# Altium footprint library TI Power Management Linear Regulator Single Channel LDO (0-350mA).PcbLib: 64 footprints (part 3 of 4)
Each footprint in its own frame and in the unit in brackets; x right, y up, seen from the top. Pads: shape width x height; smd on the part's side, far side on the other; paste and mask are expansions set on the pad; w line width, h text height; cw(c..) or ccw(c..) is an arc to the next point about the centre after c.
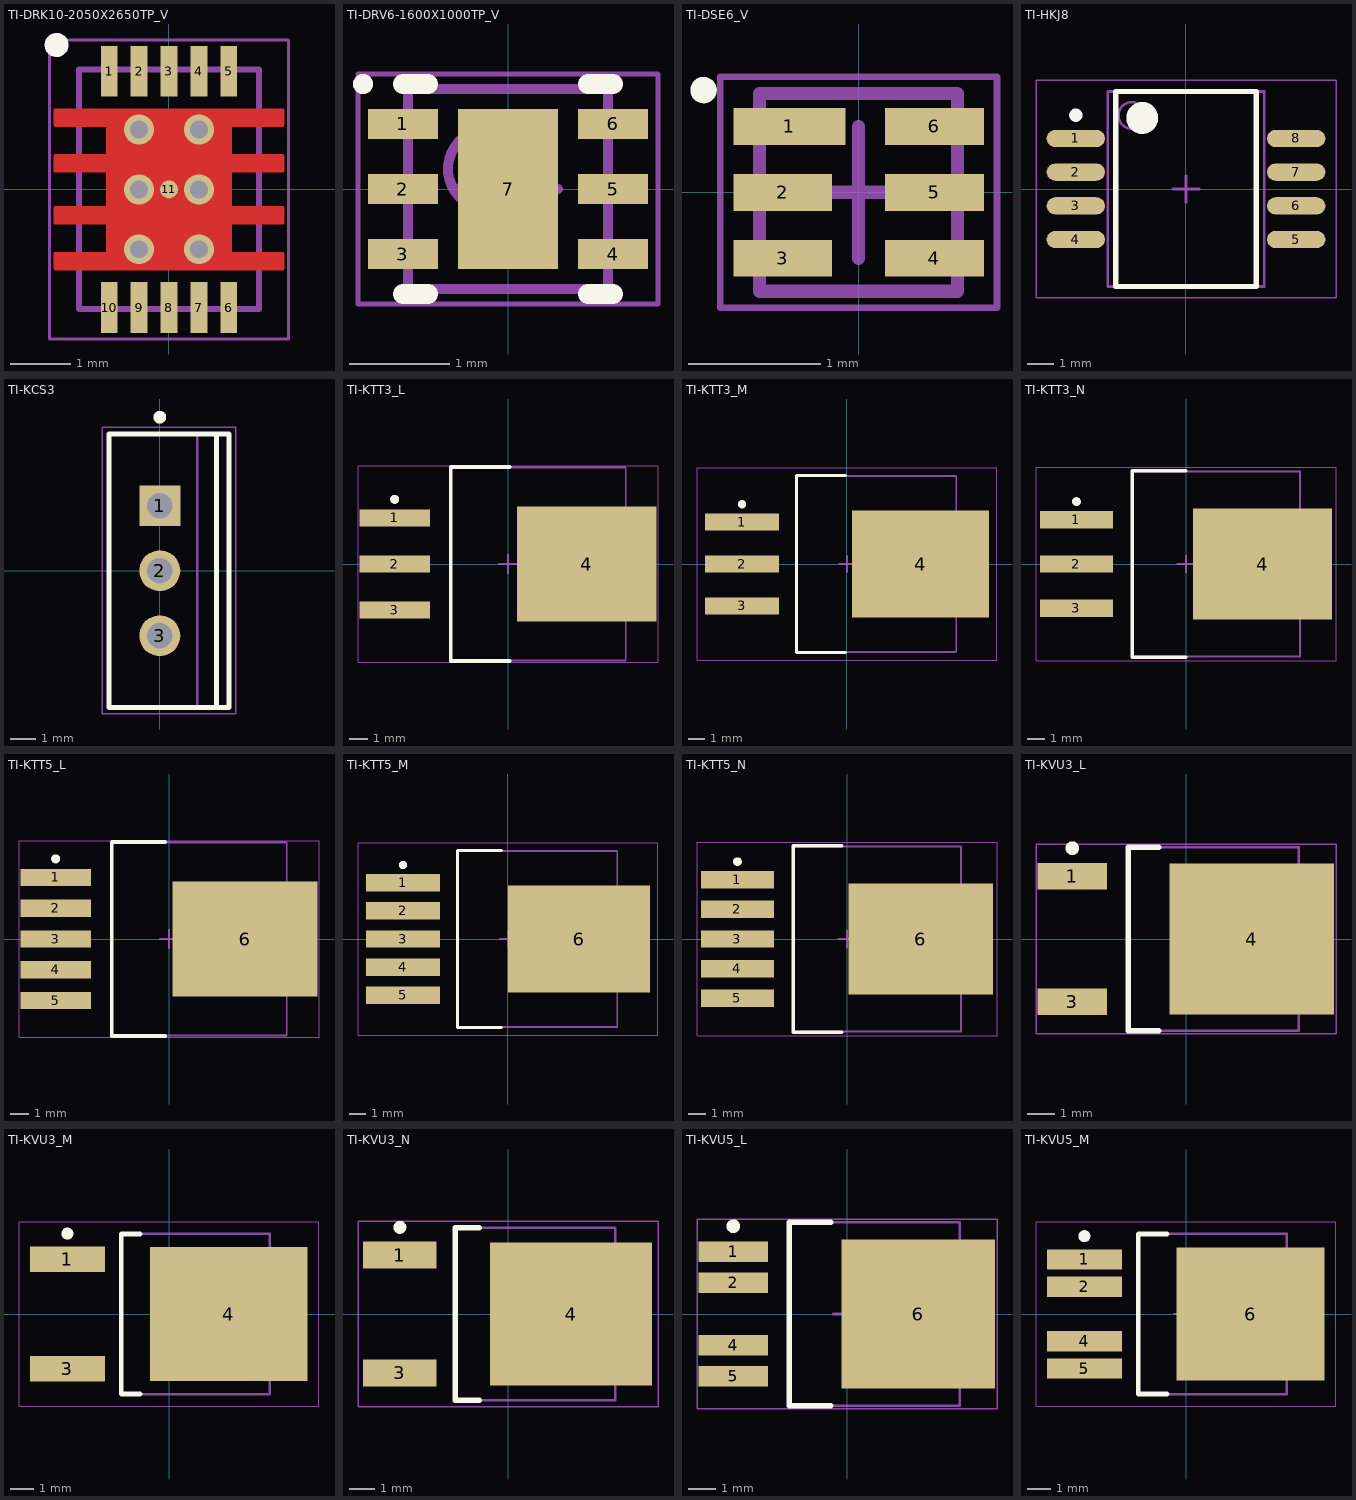
[diagram p2: the footprints below, top view; thin cyan lines are the x and y axes]

## TI-DRK10-2050X2650TP_V [mm] "SON, 10-Leads, Body 4x3mm, Pitch 0.5mm, Thermal Pad 3.8x2.65mm"
height 1
pads (11):
  rect 0.28x0.85 smd: 1(-1,1.975) 2(-0.5,1.975) 3(0,1.975) 4(0.5,1.975) 5(1,1.975) 6(1,-1.975) 7(0.5,-1.975) 8(0,-1.975) 9(-0.5,-1.975) 10(-1,-1.975)
  round 0.3 smd: 11(0,0)
via -0.5,-1 diameter 0.5 hole 0.3
via 0.5,-1 diameter 0.5 hole 0.3
via -0.5,0 diameter 0.5 hole 0.3
via -0.5,1 diameter 0.5 hole 0.3
via 0.5,0 diameter 0.5 hole 0.3
via 0.5,1 diameter 0.5 hole 0.3
Top Layer:
  region: 156 vertices and 0 holes, not listed, extent -1.925,-1.35 1.925,1.35
  lines w0.05: -1.9,-1.325 1.9,-1.325 1.9,-1.075 1.025,-1.075 1.025,-0.56 1.9,-0.56 1.9,-0.31 1.899,-0.309 1.021,-0.309 1.025,-0.305 1.025,0.31 1.9,0.31 1.9,0.56 1.025,0.56 1.025,1.075 1.9,1.075 1.9,1.325 -1.9,1.325 -1.9,1.075 -1.025,1.075 -1.025,0.56 -1.9,0.56 -1.9,0.31 -1.899,0.309 -1.021,0.309 -1.025,0.305 -1.025,-0.31 -1.9,-0.31 -1.9,-0.56 -1.025,-0.56 -1.025,-1.075 -1.9,-1.075 -1.9,-1.325
Top Overlay:
  circle w0.2: c-1.878,2.413 r0.1
Top Paste:
  drawing of 1 lines, arcs and shapes, not listed
Mechanical 13:
  lines w0.1: -1.5,-2 1.5,-2 1.5,2 -1.5,2 -1.5,-2
Mechanical 15:
  lines w0.05: -2,-2.5 -2,2.5 2,2.5 2,-2.5 -2,-2.5
  lines w0.1: -0.381,0 0.381,0 ; 0,-0.381 0,0.381
3D body: height 1, standoff 0, extent -1.5,-2 1.5,2

## TI-DRV6-1600X1000TP_V [mm] "SON, 6-Leads, Body 2x2mm, Pitch 0.65mm, Thermal Pad 1X1.6mm"
height 0.8
pads (7):
  rect 0.7x0.3 smd: 1(-1.05,0.65) 2(-1.05,0) 3(-1.05,-0.65) 4(1.05,-0.65) 5(1.05,0) 6(1.05,0.65)
  rect 1x1.6 smd: 7(0,0)
Top Overlay:
  circle w0.1: c-1.45,1.05 r0.05
  lines w0.2: -1.05,-1.05 -0.8,-1.05 ; -1.05,1.05 -0.8,1.05 ; 0.8,-1.05 1.05,-1.05 ; 0.8,1.05 1.05,1.05
Mechanical 13:
  circle w0.1: c-0.2,0.2 r0.4
  lines w0.1: -1,-1 1,-1 1,1 -1,1 -1,-1
Mechanical 15:
  lines w0.05: -1.5,-1.15 1.5,-1.15 1.5,1.15 -1.5,1.15 -1.5,-1.15
  lines w0.1: -0.5,0 0.5,0 ; 0,-0.5 0,0.5
3D body "SON6_2x2.step": height 0.75, standoff 0, extent -1.001,-1 1.001,1

## TI-DSE6_V [mm] "SON, 6-Leads, Body 1.5x1.5mm, Pitch 0.5mm"
height 0.8
pads (6):
  rect 0.85x0.28 smd: 1(-0.525,0.5)
  rect 0.75x0.28 smd: 2(-0.575,0) 3(-0.575,-0.5) 4(0.575,-0.5) 5(0.575,0) 6(0.575,0.5)
Top Overlay:
  circle w0.1: c-1.175,0.775 r0.05
Mechanical 13:
  lines w0.1: -0.75,-0.75 0.75,-0.75 0.75,0.75 -0.75,0.75 -0.75,-0.75
Mechanical 15:
  lines w0.05: -1.05,-0.875 1.05,-0.875 1.05,0.875 -1.05,0.875 -1.05,-0.875
  lines w0.1: -0.5,0 0.5,0 ; 0,-0.5 0,0.5
3D body "SON6_1.step": height 0.6, standoff -0.05, extent -0.575,-0.738 0.575,0.762

## TI-HKJ8 [mm] "DFP, 8 Leads, Body 7x5.6mm, Pitch 1.27mm, Gullwing Leadform"
height 1.99
pads (8):
  oval 2.2x0.65 smd: 1(-4.15,1.905) 2(-4.15,0.635) 3(-4.15,-0.635) 4(-4.15,-1.905) 5(4.15,-1.905) 6(4.15,-0.635) 7(4.15,0.635) 8(4.15,1.905)
Top Overlay:
  circle w0.6: c-1.65,2.675 r0.3
  circle w0.25: c-4.15,2.78 r0.125
  lines w0.2: -2.65,-3.675 2.65,-3.675 2.65,3.675 -2.65,3.675 -2.65,-3.675
Mechanical 13:
  circle w0.1: c-2.045,2.77 r0.5
  lines w0.1: -2.945,-3.67 2.945,-3.67 2.945,3.67 -2.945,3.67 -2.945,-3.67
Mechanical 15:
  lines w0.05: -5.65,-4.1 5.65,-4.1 5.65,4.1 -5.65,4.1 -5.65,-4.1
  lines w0.1: -0.5,0 0.5,0 ; 0,-0.5 0,0.5
3D body: height 1.99, standoff 0.1, extent -2.945,-3.67 2.945,3.67

## TI-KCS3 [mm] "Flange Mount, 3-Leads, Body 10.16x4.51mm, Pitch 2.54mm"
height 20.45
pads (3):
  rect 1.6x1.6 hole 1: 1(0,2.54)
  round 1.6 hole 1: 2(0,0) 3(0,-2.54)
Top Overlay:
  circle w0.25: c0,6 r0.125
  lines w0.2: 2.21,-5.35 2.21,5.35 ; -1.99,-5.35 -1.99,5.35 2.71,5.35 2.71,-5.35 -1.99,-5.35
Mechanical 13:
  lines w0.1: 1.46,-5.35 1.46,5.35 ; -1.99,-5.35 2.71,-5.35 2.71,5.35 -1.99,5.35 -1.99,-5.35
Mechanical 15:
  lines w0.05: -2.24,-5.6 2.96,-5.6 2.96,5.6 -2.24,5.6 -2.24,-5.6
  lines w0.1: -0.5,0 0.5,0 ; 0,-0.5 0,0.5
3D body: height 20.45, standoff 19.58, extent 1.46,-5.075 2.71,5.075
3D body: height 18.03, standoff 17.65, extent 1.46,-5.075 2.71,-1.925
3D body: height 18.03, standoff 17.65, extent 1.46,1.925 2.71,5.075
3D body: height 17.65, standoff 17.27, extent 1.46,-5.075 2.71,-1.925
3D body: height 17.65, standoff 17.27, extent 1.46,1.925 2.71,5.075
3D body: height 18.39, standoff 18.03, extent 1.46,-5.075 2.71,-1.888
3D body: height 18.39, standoff 18.03, extent 1.46,1.888 2.71,5.075
3D body: height 17.28, standoff 16.91, extent 1.46,-5.075 2.71,-1.888
3D body: height 17.28, standoff 16.91, extent 1.46,1.888 2.71,5.075
3D body: height 18.72, standoff 18.39, extent 1.46,-5.075 2.71,-1.778
3D body: height 18.72, standoff 18.39, extent 1.46,1.778 2.71,5.075
3D body: height 16.92, standoff 16.58, extent 1.46,-5.075 2.71,-1.778
3D body: height 16.92, standoff 16.58, extent 1.46,1.778 2.71,5.075
3D body: height 19.02, standoff 18.72, extent 1.46,-5.075 2.71,-1.601
3D body: height 19.02, standoff 18.72, extent 1.46,1.601 2.71,5.075
3D body: height 16.59, standoff 16.29, extent 1.46,-5.075 2.71,-1.601
3D body: height 16.59, standoff 16.29, extent 1.46,1.601 2.71,5.075
3D body: height 19.26, standoff 19.01, extent 1.46,-5.075 2.71,-1.361
3D body: height 19.26, standoff 19.01, extent 1.46,1.361 2.71,5.075
3D body: height 16.29, standoff 16.05, extent 1.46,-5.075 2.71,-1.361
3D body: height 16.29, standoff 16.05, extent 1.46,1.361 2.71,5.075
3D body: height 19.43, standoff 19.25, extent 1.46,-5.075 2.71,-1.069
3D body: height 19.43, standoff 19.25, extent 1.46,1.069 2.71,5.075
3D body: height 16.05, standoff 15.87, extent 1.46,-5.075 2.71,-1.069
3D body: height 16.05, standoff 15.87, extent 1.46,1.069 2.71,5.075
3D body: height 19.54, standoff 19.43, extent 1.46,-5.075 2.71,-0.737
3D body: height 19.54, standoff 19.43, extent 1.46,0.737 2.71,5.075
3D body: height 15.88, standoff 15.76, extent 1.46,-5.075 2.71,-0.737
3D body: height 15.88, standoff 15.76, extent 1.46,0.737 2.71,5.075
3D body: height 19.58, standoff 19.54, extent 1.46,-5.075 2.71,-0.376
3D body: height 19.58, standoff 19.54, extent 1.46,0.376 2.71,5.075
3D body: height 15.77, standoff 15.73, extent 1.46,-5.075 2.71,-0.376
3D body: height 15.77, standoff 15.73, extent 1.46,0.376 2.71,5.075
3D body: height 15.73, standoff 14.1, extent 1.46,-5.075 2.71,5.075
3D body: height 14.1, standoff 3.94, extent -1.99,-5.35 2.71,5.35
3D body: height 0, standoff -1.6, extent -0.24,-2.94 0.24,-2.14
3D body: height 3.94, standoff 0, extent -0.24,-3.27 0.24,-1.81
3D body: height 0, standoff -1.6, extent -0.24,-0.4 0.24,0.4
3D body: height 3.94, standoff 0, extent -0.24,-0.73 0.24,0.73
3D body: height 0, standoff -1.6, extent -0.24,2.14 0.24,2.94
3D body: height 3.94, standoff 0, extent -0.24,1.81 0.24,3.27

## TI-KTT3_L [mm] "DPAK, 3-Leads, Body 10.16x9.015mm, Pitch 2.54mm, IPC High Density"
height 4.83
pads (4):
  rect 3.9x0.95 smd: 1(-6.25,2.54) 2(-6.25,0) 3(-6.25,-2.54)
  rect 7.7x6.35 smd: 4(4.35,0)
Top Overlay:
  circle w0.25: c-6.25,3.565 r0.125
  lines w0.2: 0.1,-5.35 -3.15,-5.35 -3.15,5.35 0.1,5.35
Mechanical 13:
  lines w0.1: -3.15,-5.325 6.5,-5.325 6.5,5.325 -3.15,5.325 -3.15,-5.325
Mechanical 15:
  lines w0.05: -8.275,-5.425 8.275,-5.425 8.275,5.425 -8.275,5.425 -8.275,-5.425
  lines w0.1: -0.5,0 0.5,0 ; 0,-0.5 0,0.5
3D body: height 4.83, standoff 0, extent -3.15,-5.325 6.5,5.325

## TI-KTT3_M [mm] "DPAK, 3-Leads, Body 10.16x9.015mm, Pitch 2.54mm, IPC Low Density"
height 4.83
pads (4):
  rect 4.5x1.05 smd: 1(-6.35,2.54) 2(-6.35,0) 3(-6.35,-2.54)
  rect 8.3x6.45 smd: 4(4.45,0)
Top Overlay:
  circle w0.25: c-6.35,3.615 r0.125
  lines w0.2: -0.1,-5.35 -3.05,-5.35 -3.05,5.35 -0.1,5.35
Mechanical 13:
  lines w0.1: -3.05,-5.325 6.6,-5.325 6.6,5.325 -3.05,5.325 -3.05,-5.325
Mechanical 15:
  lines w0.05: -9.075,-5.825 9.075,-5.825 9.075,5.825 -9.075,5.825 -9.075,-5.825
  lines w0.1: -0.5,0 0.5,0 ; 0,-0.5 0,0.5
3D body: height 4.83, standoff 0, extent -3.05,-5.325 6.6,5.325

## TI-KTT3_N [mm] "DPAK, 3-Leads, Body 10.16x9.015mm, Pitch 2.54mm, IPC Medium Density"
height 4.83
pads (4):
  rect 4.2x1 smd: 1(-6.3,2.54) 2(-6.3,0) 3(-6.3,-2.54)
  rect 8x6.4 smd: 4(4.4,0)
Top Overlay:
  circle w0.25: c-6.3,3.59 r0.125
  lines w0.2: 0,-5.35 -3.1,-5.35 -3.1,5.35 0,5.35
Mechanical 13:
  lines w0.1: -3.1,-5.325 -3.1,5.325 6.55,5.325 6.55,-5.325 -3.1,-5.325
Mechanical 15:
  lines w0.05: -8.625,-5.575 -8.625,5.575 8.625,5.575 8.625,-5.575 -8.625,-5.575
  lines w0.1: -0.5,0 0.5,0 ; 0,-0.5 0,0.5
3D body: height 4.83, standoff 0, extent -3.1,-5.325 6.55,5.325

## TI-KTT5_L [mm] "DPAK, 5-Leads, Body 10.16x8.925mm, Pitch 1.7mm, IPC High Density"
height 4.83
pads (6):
  rect 3.9x0.95 smd: 1(-6.25,3.4) 2(-6.25,1.7) 3(-6.25,0) 4(-6.25,-1.7) 5(-6.25,-3.4)
  rect 8x6.35 smd: 6(4.2,0)
Top Overlay:
  circle w0.25: c-6.25,4.425 r0.125
  lines w0.2: -0.2,-5.35 -3.15,-5.35 -3.15,5.35 -0.2,5.35
Mechanical 13:
  lines w0.1: -3.15,-5.325 6.5,-5.325 6.5,5.325 -3.15,5.325 -3.15,-5.325
Mechanical 15:
  lines w0.05: -8.275,-5.425 8.275,-5.425 8.275,5.425 -8.275,5.425 -8.275,-5.425
  lines w0.1: -0.5,0 0.5,0 ; 0,-0.5 0,0.5
3D body: height 4.83, standoff 0, extent -3.15,-5.325 6.5,5.325

## TI-KTT5_M [mm] "DPAK, 5-Leads, Body 10.16x8.925mm, Pitch 1.7mm, IPC Low Density"
height 4.83
pads (6):
  rect 4.5x1.05 smd: 1(-6.35,3.4) 2(-6.35,1.7) 3(-6.35,0) 4(-6.35,-1.7) 5(-6.35,-3.4)
  rect 8.6x6.45 smd: 6(4.3,0)
Top Overlay:
  circle w0.25: c-6.35,4.475 r0.125
  lines w0.2: -0.4,-5.35 -3.05,-5.35 -3.05,5.35 -0.4,5.35
Mechanical 13:
  lines w0.1: -3.05,-5.325 -3.05,5.325 6.6,5.325 6.6,-5.325 -3.05,-5.325
Mechanical 15:
  lines w0.05: -9.075,-5.825 -9.075,5.825 9.075,5.825 9.075,-5.825 -9.075,-5.825
  lines w0.1: -0.5,0 0.5,0 ; 0,-0.5 0,0.5
3D body: height 4.83, standoff 0, extent -3.05,-5.325 6.6,5.325

## TI-KTT5_N [mm] "DPAK, 5-Leads, Body 10.16x8.925mm, Pitch 1.7mm, IPC Medium Density"
height 4.83
pads (6):
  rect 4.2x1 smd: 1(-6.3,3.4) 2(-6.3,1.7) 3(-6.3,0) 4(-6.3,-1.7) 5(-6.3,-3.4)
  rect 8.3x6.4 smd: 6(4.25,0)
Top Overlay:
  circle w0.25: c-6.3,4.45 r0.125
  lines w0.2: -0.3,-5.35 -3.1,-5.35 -3.1,5.35 -0.3,5.35
Mechanical 13:
  lines w0.1: -3.1,-5.325 6.55,-5.325 6.55,5.325 -3.1,5.325 -3.1,-5.325
Mechanical 15:
  lines w0.05: -8.625,-5.575 8.625,-5.575 8.625,5.575 -8.625,5.575 -8.625,-5.575
  lines w0.1: -0.5,0 0.5,0 ; 0,-0.5 0,0.5
3D body: height 4.83, standoff 0, extent -3.1,-5.325 6.55,5.325

## TI-KVU3_L [mm] "DPAK, 3-Leads, Body 6.6x6.1mm, Pitch 2.29mm, IPC High Density"
height 2.39
pads (3):
  rect 2.55x0.95 smd: 1(-4.15,2.29) 3(-4.15,-2.29)
  rect 6x5.5 smd: 4(2.4,0)
Top Overlay:
  circle w0.25: c-4.15,3.315 r0.125
  lines w0.2: -1,-3.35 -2.1,-3.35 -2.1,3.35 -1,3.35
Mechanical 13:
  lines w0.1: -2.1,-3.35 4.12,-3.35 4.12,3.35 -2.1,3.35 -2.1,-3.35
Mechanical 15:
  lines w0.05: -5.475,-3.45 5.475,-3.45 5.475,3.45 -5.475,3.45 -5.475,-3.45
  lines w0.1: -0.5,0 0.5,0 ; 0,-0.5 0,0.5
3D body: height 2.39, standoff 0, extent -2.1,-3.35 4.12,3.35

## TI-KVU3_M [mm] "DPAK, 3-Leads, Body 6.6x6.1mm, Pitch 2.29mm, IPC Low Density"
height 2.39
pads (3):
  rect 3.15x1.05 smd: 1(-4.25,2.29) 3(-4.25,-2.29)
  rect 6.6x5.6 smd: 4(2.5,0)
Top Overlay:
  circle w0.25: c-4.25,3.365 r0.125
  lines w0.2: -1.2,-3.35 -2,-3.35 -2,3.35 -1.2,3.35
Mechanical 13:
  lines w0.1: -2,-3.35 4.22,-3.35 4.22,3.35 -2,3.35 -2,-3.35
Mechanical 15:
  lines w0.05: -6.275,-3.85 6.275,-3.85 6.275,3.85 -6.275,3.85 -6.275,-3.85
  lines w0.1: -0.5,0 0.5,0 ; 0,-0.5 0,0.5
3D body: height 2.39, standoff 0, extent -2,-3.35 4.22,3.35

## TI-KVU3_N [mm] "DPAK, 3-Leads, Body 6.6x6.1mm, Pitch 2.29mm, IPC Medium Density"
height 2.39
pads (3):
  rect 2.85x1.05 smd: 1(-4.2,2.29) 3(-4.2,-2.29)
  rect 6.3x5.55 smd: 4(2.45,0)
Top Overlay:
  circle w0.25: c-4.2,3.365 r0.125
  lines w0.2: -1.1,-3.35 -2.05,-3.35 -2.05,3.35 -1.1,3.35
Mechanical 13:
  lines w0.1: -2.05,-3.35 -2.05,3.35 4.17,3.35 4.17,-3.35 -2.05,-3.35
Mechanical 15:
  lines w0.05: -5.825,-3.6 -5.825,3.6 5.825,3.6 5.825,-3.6 -5.825,-3.6
  lines w0.1: -0.5,0 0.5,0 ; 0,-0.5 0,0.5
3D body: height 2.39, standoff 0, extent -2.05,-3.35 4.17,3.35

## TI-KVU5_L [mm] "DPAK, 5-Leads, Body 6.6x6.095mm, Pitch 1.14mm, IPC High Density"
height 2.39
pads (5):
  rect 2.55x0.75 smd: 1(-4.15,2.28) 2(-4.15,1.14) 4(-4.15,-1.14) 5(-4.15,-2.28)
  rect 5.6x5.45 smd: 6(2.6,0)
Top Overlay:
  circle w0.25: c-4.15,3.205 r0.125
  lines w0.2: -0.6,-3.35 -2.1,-3.35 -2.1,3.35 -0.6,3.35
Mechanical 13:
  lines w0.1: -2.1,-3.35 4.12,-3.35 4.12,3.35 -2.1,3.35 -2.1,-3.35
Mechanical 15:
  lines w0.05: -5.475,-3.45 5.475,-3.45 5.475,3.45 -5.475,3.45 -5.475,-3.45
  lines w0.1: -0.5,0 0.5,0 ; 0,-0.5 0,0.5
3D body: height 2.39, standoff 0, extent -2.1,-3.35 4.12,3.35

## TI-KVU5_M [mm] "DPAK, 5-Leads, Body 6.6x6.095mm, Pitch 1.14mm, IPC Low Density"
height 2.39
pads (5):
  rect 3.15x0.85 smd: 1(-4.25,2.28) 2(-4.25,1.14) 4(-4.25,-1.14) 5(-4.25,-2.28)
  rect 6.2x5.55 smd: 6(2.7,0)
Top Overlay:
  circle w0.25: c-4.25,3.255 r0.125
  lines w0.2: -0.8,-3.35 -2,-3.35 -2,3.35 -0.8,3.35
Mechanical 13:
  lines w0.1: -2,-3.35 -2,3.35 4.22,3.35 4.22,-3.35 -2,-3.35
Mechanical 15:
  lines w0.05: -6.275,-3.85 -6.275,3.85 6.275,3.85 6.275,-3.85 -6.275,-3.85
  lines w0.1: -0.5,0 0.5,0 ; 0,-0.5 0,0.5
3D body: height 2.39, standoff 0, extent -2,-3.35 4.22,3.35